# Altium footprint library TBP02R1-381-06BE.PcbLib: 1 footprints
Each footprint in its own frame and in the unit in brackets; x right, y up, seen from the top. Pads: shape width x height; smd on the part's side, far side on the other; paste and mask are expansions set on the pad; w line width, h text height; cw(c..) or ccw(c..) is an arc to the next point about the centre after c.
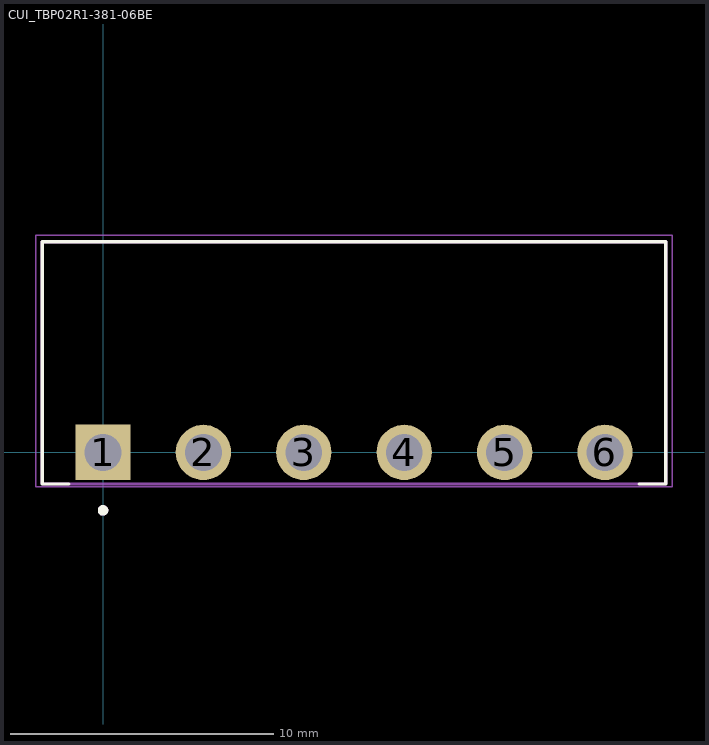
[diagram p0: the footprint, top view; thin cyan lines are the x and y axes]

## CUI_TBP02R1-381-06BE [mm]
pads (6):
  rect 2.1x2.1 hole 1.4: 1(0,0)
  round 2.1 hole 1.4: 2(3.81,0) 3(7.62,0) 4(11.43,0) 5(15.24,0) 6(19.05,0)
Top Overlay:
  circle w0.2: c0,-2.2 r0.1
  lines w0.127: -1.3,-1.2 -2.3,-1.2 -2.3,8 21.35,8 21.35,-1.2 20.35,-1.2
Mechanical 13:
  circle w0.2: c0,-2.2 r0.1
  lines w0.127: -2.3,-1.2 21.35,-1.2 21.35,8 -2.3,8 -2.3,-1.2
Mechanical 15:
  lines w0.05: -2.55,-1.3 -2.55,8.25 21.6,8.25 21.6,-1.3 -2.55,-1.3